# Altium schematic symbol library TL431_DIP.Schlib: 1 symbol
Pins are listed as number, name and electrical type; pins without a type are passive.

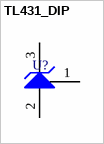
[diagram p0: symbol TL431_DIP]

## TL431_DIP
designator U?
three-terminal adjustable precision shunt voltage regulator
footprint TO-92_29-04 (TO, Flat Index; 3 In-Line, Axial Leads; Body Dia. 4.8mm; Leads 0.48 x 0.51 mm (max))
pins: 1 Ref, 2 A, 3 K